# EAGLE library part ESP32-S3-WROOM-1-N8 (library shared)
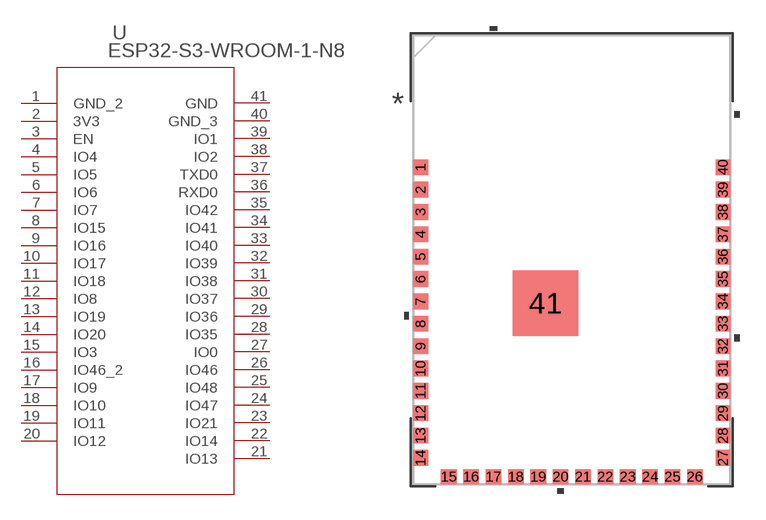
[diagram p1: symbol with the pads of ESP32-S3-WROOM-1-N8_EXP; footprint ESP32-S3-WROOM-1-N8_EXP]

Designator prefix U

## ESP32-S3-WROOM-1-N8 (COPYRIGHT: Copyright (C) 2022 Ultra Librarian. All rights reserved.; MANUFACTURER_PART_NUMBER: ESP32-S3-WROOM-1-N8; MFR_NAME: Espressif Systems)  [ESP32-S3-WROOM-1-N8_EXP]
1  GND_2  pas
2  3V3  pas
3  EN  pas
4  IO4  pas
5  IO5  pas
6  IO6  pas
7  IO7  pas
8  IO15  pas
9  IO16  pas
10  IO17  pas
11  IO18  pas
12  IO8  pas
13  IO19  pas
14  IO20  pas
15  IO3  pas
16  IO46_2  pas
17  IO9  pas
18  IO10  pas
19  IO11  pas
20  IO12  pas
21  IO13  pas
22  IO14  pas
23  IO21  pas
24  IO47  pas
25  IO48  pas
26  IO46  pas
27  IO0  pas
28  IO35  pas
29  IO36  pas
30  IO37  pas
31  IO38  pas
32  IO39  pas
33  IO40  pas
34  IO41  pas
35  IO42  pas
36  RXD0  pas
37  TXD0  pas
38  IO2  pas
39  IO1  pas
40  GND_3  pas
41  GND  pas

## Footprint ESP32-S3-WROOM-1-N8_EXP (pad centres in mm)
smd 0.838 x 0.889: 1 -8.581,5.254; 2 -8.581,3.984; 3 -8.581,2.714; 4 -8.581,1.444; 5 -8.581,0.174; 6 -8.581,-1.096; 7 -8.581,-2.366; 8 -8.581,-3.636; 9 -8.581,-4.906; 10 -8.581,-6.176; 11 -8.581,-7.446; 12 -8.581,-8.716; 13 -8.581,-9.986; 14 -8.581,-11.256; 27 8.581,-11.256; 28 8.581,-9.986; 29 8.581,-8.716; 30 8.581,-7.446; 31 8.581,-6.176; 32 8.581,-4.906; 33 8.581,-3.636; 34 8.581,-2.366; 35 8.581,-1.096; 36 8.581,0.174; 37 8.581,1.444; 38 8.581,2.714; 39 8.581,3.984; 40 8.581,5.254
smd 0.889 x 0.838: 15 -6.985,-12.331; 16 -5.715,-12.331; 17 -4.445,-12.331; 18 -3.175,-12.331; 19 -1.905,-12.331; 20 -0.635,-12.331; 21 0.635,-12.331; 22 1.905,-12.331; 23 3.175,-12.331; 24 4.445,-12.331; 25 5.715,-12.331; 26 6.985,-12.331
smd 3.708 x 3.708: 41 -1.496,-2.461